# EAGLE library part MYMGK00506ERSR (library 2026-01-08_14-29-41_Library)
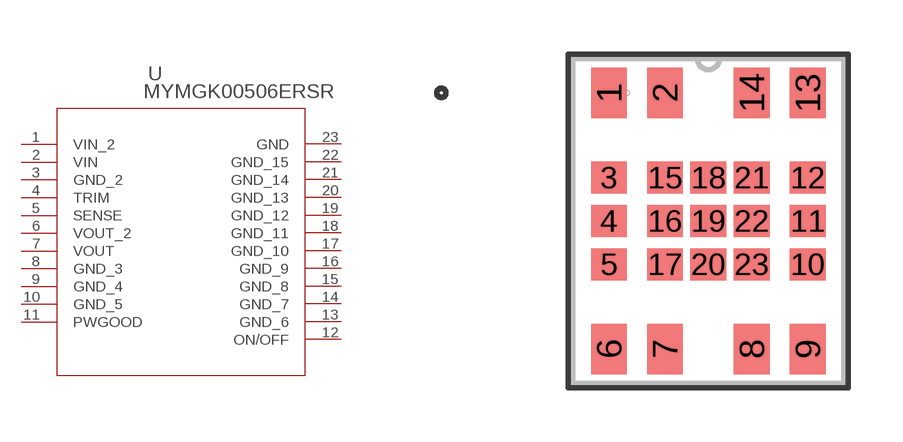
[diagram p0: symbol with the pads of MYMGK1R806FRSR/MYMGK00506ERSR_; footprint MYMGK1R806FRSR/MYMGK00506ERSR_]

Designator prefix U

## MYMGK00506ERSRMYMGK1R806FRSR/MYMGK00506ERSR_ (Copyright: Copyright (C) 2026 Ultra Librarian. All rights reserved.; Manufacturer_Name: Murata; Manufacturer_Part_Number: MYMGK00506ERSR)  [MYMGK1R806FRSR/MYMGK00506ERSR_]
1  VIN_2  pwr
2  VIN  pwr
3  GND_2  pas
4  TRIM  pas
5  SENSE  pas
6  VOUT_2  out
7  VOUT  out
8  GND_3  pas
9  GND_4  pas
10  GND_5  pas
11  PWGOOD  out
12  ON/OFF  pas
13  GND_6  pas
14  GND_7  pas
15  GND_8  pas
16  GND_9  pas
17  GND_10  pas
18  GND_11  pas
19  GND_12  pas
20  GND_13  pas
21  GND_14  pas
22  GND_15  pas
23  GND  pas

## Footprint MYMGK1R806FRSR/MYMGK00506ERSR_ (pad centres in mm)
smd 0.991 x 1.397: 1 -2.75,3.55; 2 -1.2,3.55; 6 -2.75,-3.55; 7 -1.2,-3.55; 8 1.2,-3.55; 9 2.75,-3.55; 13 2.75,3.55; 14 1.2,3.55
smd 0.991 x 0.889: 3 -2.75,1.2; 4 -2.75,0; 5 -2.75,-1.2; 10 2.75,-1.2; 11 2.75,0; 12 2.75,1.2; 15 -1.2,1.2; 16 -1.2,0; 17 -1.2,-1.2; 18 0,1.2; 19 0,0; 20 0,-1.2; 21 1.2,1.2; 22 1.2,0; 23 1.2,-1.2